# Altium footprint library 0402 Package.PcbLib: 11 footprints
Each footprint in its own frame and in the unit in brackets; x right, y up, seen from the top. Pads: shape width x height; smd on the part's side, far side on the other; paste and mask are expansions set on the pad; w line width, h text height; cw(c..) or ccw(c..) is an arc to the next point about the centre after c.
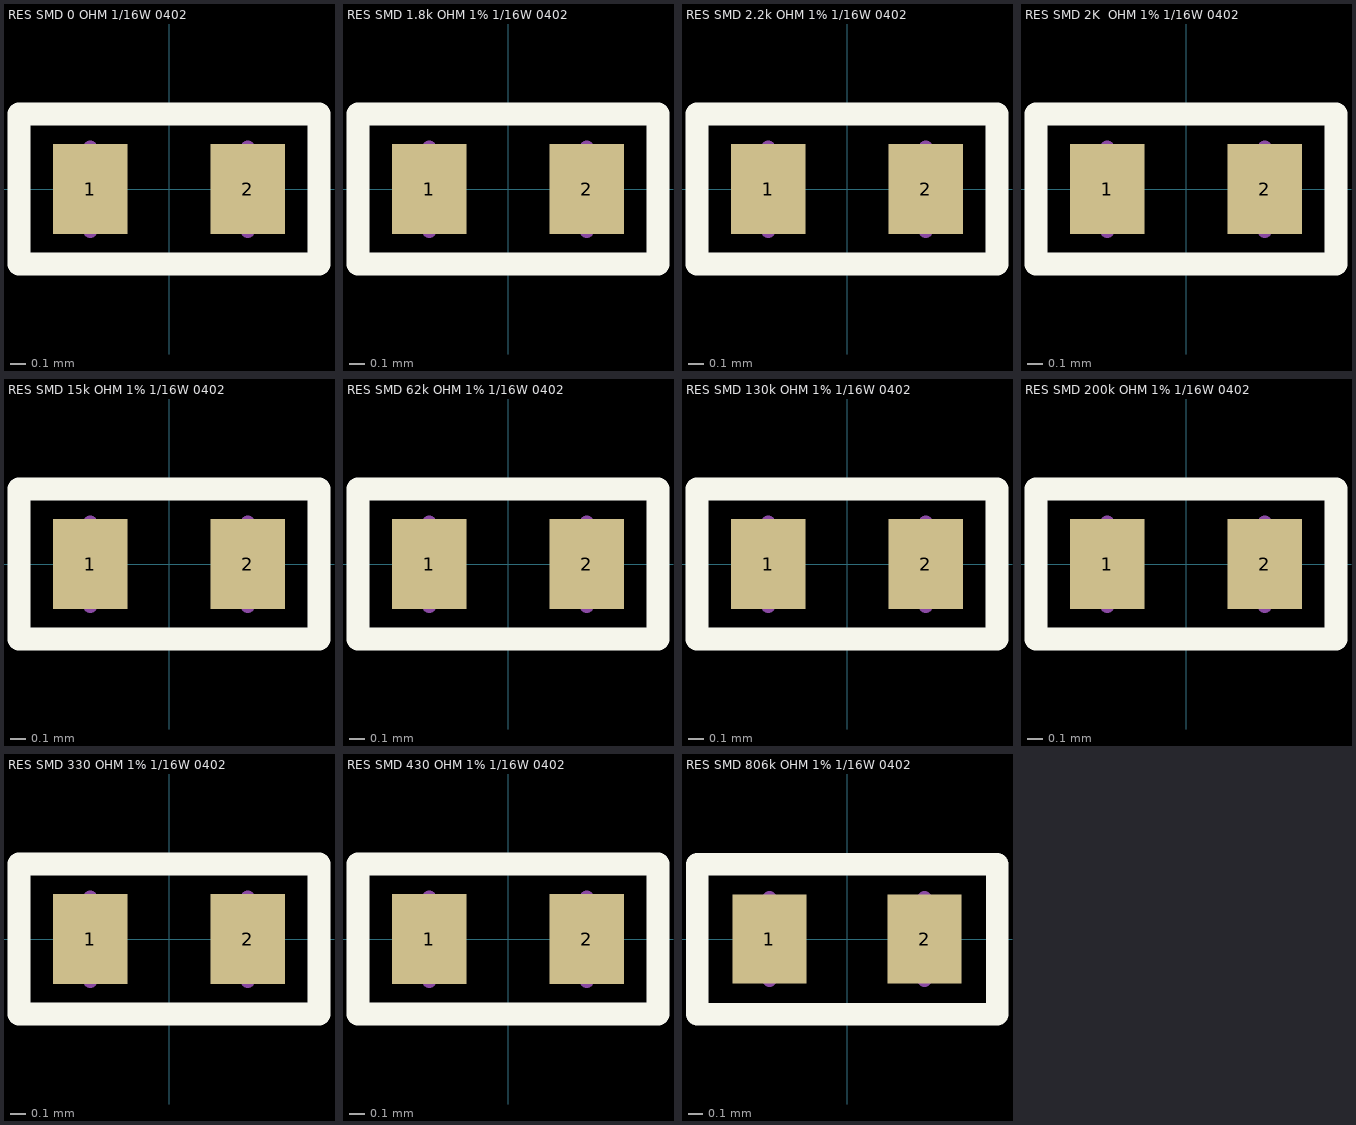
[diagram p0: the footprints below, top view; thin cyan lines are the x and y axes]

## RES SMD 0 OHM 1/16W 0402 [mm] "0 Ohms Jumper 0.063W, 1/16W Chip Resistor 0402 (1005 Metric) Moisture Resistant Thick Film"
height 0.4
pads (2):
  rect 0.5x0.6 smd: 1(-0.525,0) 2(0.525,0)
Top Overlay:
  lines w0.152: -1,-0.5 -1,0.5 1,0.5 1,-0.5 -1,-0.5
Mechanical 13:
  lines w0.1: -0.525,-0.275 -0.525,0.275 ; 0.525,-0.275 0.525,0.275
3D body "User Library-RES_1005-0402.step": height 0.41, standoff 0, extent -0.575,-0.275 0.575,0.275

## RES SMD 1.8k OHM 1% 1/16W 0402 [mm] "1.8 kOhms ±1% 0.063W, 1/16W Chip Resistor 0402 (1005 Metric) Moisture Resistant Thick Film"
height 0.4
pads (2):
  rect 0.5x0.6 smd: 1(-0.525,0) 2(0.525,0)
Top Overlay:
  lines w0.152: -1,-0.5 1,-0.5 1,0.5 -1,0.5 -1,-0.5
Mechanical 13:
  lines w0.1: -0.525,-0.275 -0.525,0.275 ; 0.525,-0.275 0.525,0.275
3D body "User Library-RES_1005-0402.step": height 0.41, standoff 0, extent -0.575,-0.275 0.575,0.275

## RES SMD 2.2k OHM 1% 1/16W 0402 [mm] "2.2 kOhms ±1% 0.063W, 1/16W Chip Resistor 0402 (1005 Metric) Moisture Resistant Thick Film"
height 0.4
pads (2):
  rect 0.5x0.6 smd: 1(-0.525,0) 2(0.525,0)
Top Overlay:
  lines w0.152: -1,-0.5 1,-0.5 1,0.5 -1,0.5 -1,-0.5
Mechanical 13:
  lines w0.1: -0.525,-0.275 -0.525,0.275 ; 0.525,-0.275 0.525,0.275
3D body "User Library-RES_1005-0402.step": height 0.41, standoff 0, extent -0.575,-0.275 0.575,0.275

## RES SMD 2K  OHM 1% 1/16W 0402 [mm] "2 kOhms ±1% 0.063W, 1/16W Chip Resistor 0402 (1005 Metric) Moisture Resistant Thick Film"
height 0.4
pads (2):
  rect 0.5x0.6 smd: 1(-0.525,0) 2(0.525,0)
Top Overlay:
  lines w0.152: -1,-0.5 1,-0.5 1,0.5 -1,0.5 -1,-0.5
Mechanical 13:
  lines w0.1: -0.525,-0.275 -0.525,0.275 ; 0.525,-0.275 0.525,0.275
3D body "User Library-RES_1005-0402.step": height 0.41, standoff 0, extent -0.575,-0.275 0.575,0.275

## RES SMD 15k OHM 1% 1/16W 0402 [mm] "15 kOhms ±1% 0.063W, 1/16W Chip Resistor 0402 (1005 Metric) Moisture Resistant Thick Film"
height 0.4
pads (2):
  rect 0.5x0.6 smd: 1(-0.525,0) 2(0.525,0)
Top Overlay:
  lines w0.152: -1,-0.5 1,-0.5 1,0.5 -1,0.5 -1,-0.5
Mechanical 13:
  lines w0.1: -0.525,-0.275 -0.525,0.275 ; 0.525,-0.275 0.525,0.275
3D body "User Library-RES_1005-0402.step": height 0.41, standoff 0, extent -0.575,-0.275 0.575,0.275

## RES SMD 62k OHM 1% 1/16W 0402 [mm] "62 kOhms ±1% 0.063W, 1/16W Chip Resistor 0402 (1005 Metric) Moisture Resistant Thick Film"
height 0.4
pads (2):
  rect 0.5x0.6 smd: 1(-0.525,0) 2(0.525,0)
Top Overlay:
  lines w0.152: -1,-0.5 1,-0.5 1,0.5 -1,0.5 -1,-0.5
Mechanical 13:
  lines w0.1: -0.525,-0.275 -0.525,0.275 ; 0.525,-0.275 0.525,0.275
3D body "User Library-RES_1005-0402.step": height 0.41, standoff 0, extent -0.575,-0.275 0.575,0.275

## RES SMD 130k OHM 1% 1/16W 0402 [mm] "130 kOhms ±1% 0.063W, 1/16W Chip Resistor 0402 (1005 Metric) Moisture Resistant Thick Film"
height 0.4
pads (2):
  rect 0.5x0.6 smd: 1(-0.525,0) 2(0.525,0)
Top Overlay:
  lines w0.152: -1,-0.5 -1,0.5 1,0.5 1,-0.5 -1,-0.5
Mechanical 13:
  lines w0.1: -0.525,-0.275 -0.525,0.275 ; 0.525,-0.275 0.525,0.275
3D body "User Library-RES_1005-0402.step": height 0.41, standoff 0, extent -0.575,-0.275 0.575,0.275

## RES SMD 200k OHM 1% 1/16W 0402 [mm] "200 kOhms ±1% 0.063W, 1/16W Chip Resistor 0402 (1005 Metric) Moisture Resistant Thick Film"
height 0.4
pads (2):
  rect 0.5x0.6 smd: 1(-0.525,0) 2(0.525,0)
Top Overlay:
  lines w0.152: -1,-0.5 1,-0.5 1,0.5 -1,0.5 -1,-0.5
Mechanical 13:
  lines w0.1: -0.525,-0.275 -0.525,0.275 ; 0.525,-0.275 0.525,0.275
3D body "User Library-RES_1005-0402.step": height 0.41, standoff 0, extent -0.575,-0.275 0.575,0.275

## RES SMD 330 OHM 1% 1/16W 0402 [mm] "330 Ohms ±1% 0.063W, 1/16W Chip Resistor 0402 (1005 Metric) Moisture Resistant Thick Film"
height 0.4
pads (2):
  rect 0.5x0.6 smd: 1(-0.525,0) 2(0.525,0)
Top Overlay:
  lines w0.152: -1,-0.5 -1,0.5 1,0.5 1,-0.5 -1,-0.5
Mechanical 13:
  lines w0.1: -0.525,-0.275 -0.525,0.275 ; 0.525,-0.275 0.525,0.275
3D body "User Library-RES_1005-0402.step": height 0.41, standoff 0, extent -0.575,-0.275 0.575,0.275

## RES SMD 430 OHM 1% 1/16W 0402 [mm] "430 Ohms ±1% 0.063W, 1/16W Chip Resistor 0402 (1005 Metric) Moisture Resistant Thick Film"
height 0.4
pads (2):
  rect 0.5x0.6 smd: 1(-0.525,0) 2(0.525,0)
Top Overlay:
  lines w0.152: -1,-0.5 1,-0.5 1,0.5 -1,0.5 -1,-0.5
Mechanical 13:
  lines w0.1: -0.525,-0.275 -0.525,0.275 ; 0.525,-0.275 0.525,0.275
3D body "User Library-RES_1005-0402.step": height 0.41, standoff 0, extent -0.575,-0.275 0.575,0.275

## RES SMD 806k OHM 1% 1/16W 0402 [mm] "806 kOhms ±1% 0.063W, 1/16W Chip Resistor 0402 (1005 Metric) Moisture Resistant Thick Film"
height 0.4
pads (2):
  rect 0.5x0.6 smd: 1(-0.525,0) 2(0.525,0)
Top Overlay:
  lines w0.152: -1.016,-0.508 -1.016,0.508 1.016,0.508 1.016,-0.508 -1.016,-0.508
Mechanical 13:
  lines w0.1: -0.525,-0.275 -0.525,0.275 ; 0.525,-0.275 0.525,0.275
3D body "User Library-RES_1005-0402.step": height 0.41, standoff 0, extent -0.575,-0.275 0.575,0.275